# Altium footprint library IDC-16MS (DS1013-16S).PcbLib: 1 footprints
Each footprint in its own frame and in the unit in brackets; x right, y up, seen from the top. Pads: shape width x height; smd on the part's side, far side on the other; paste and mask are expansions set on the pad; w line width, h text height; cw(c..) or ccw(c..) is an arc to the next point about the centre after c.
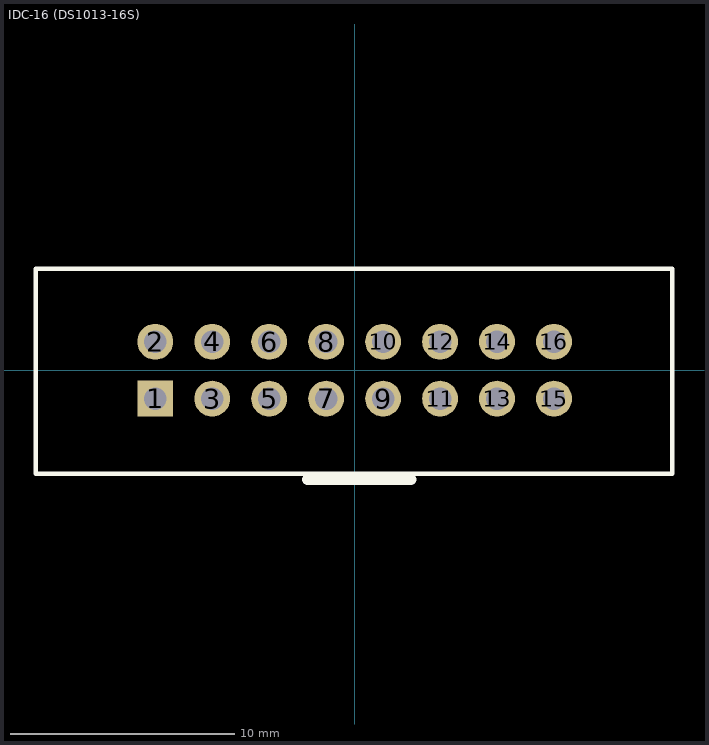
[diagram p0: the footprint, top view; thin cyan lines are the x and y axes]

## IDC-16 (DS1013-16S) [mm]
pads (16):
  rect 1.6x1.6 hole 1: 1(-8.89,-1.27)
  round 1.6 hole 1: 2(-8.89,1.27) 3(-6.35,-1.27) 4(-6.35,1.27) 5(-3.81,-1.27) 6(-3.81,1.27) 7(-1.27,-1.27) 8(-1.27,1.27) 9(1.27,-1.27) 10(1.27,1.27) 11(3.81,-1.27) 12(3.81,1.27) 13(6.35,-1.27) 14(6.35,1.27) 15(8.89,-1.27) 16(8.89,1.27)
Top Overlay:
  lines w0.2: -14.215,-4.62 14.16,-4.62 14.16,4.53 -14.215,4.53 -14.215,-4.62
  lines w0.5: -2.09,-4.87 2.51,-4.87
  text "." at -14.8,-4.3 h3
Mechanical 1:
  text ".Designator" at -10.89,-4.033 h1.52
3D body "DS1013-16S (IDC-16MS CONNFLY).STEP": height 9, standoff -3.6, extent -14.06,-4.5 14.06,4.4